# EAGLE library part 620104131822 (library 620104131822)
Wurth Elektronik WR-WTB Series, Series Number 6201, 2mm Pitch 4 Way 1 Row Straight PCB Header, Solder Termination, 2A Source: Datasheet <https://katalog.we-online.de/em/datasheet/6201xx131822.pdf>
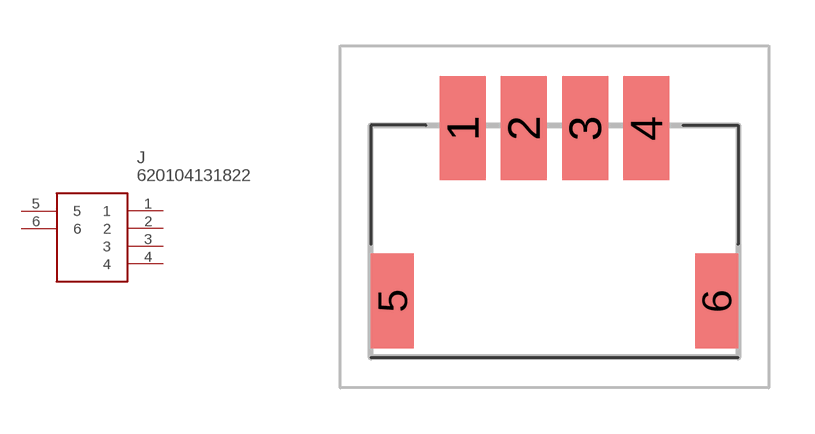
[diagram p0: symbol with the pads of 620104131822; footprint 620104131822]

Designator prefix J

## 620104131822 (Description: Wurth Elektronik WR-WTB Series, Series Number 6201, 2mm Pitch 4 Way 1 Row Straight PCB Header, Solder Termination, 2A; Height: 5.6mm; Manufacturer_Name: Wurth Elektronik; Manufacturer_Part_Number: 620104131822)  [620104131822]
1  1
2  2
3  3
4  4
5  5
6  6

## Footprint 620104131822 (pad centres in mm)
620104131822-2
smd 1.5 x 3.4: 1 -3,3.7; 2 -1,3.7; 3 1,3.7; 4 3,3.7
smd 1.4 x 3.1: 5 -5.3,-1.95; 6 5.3,-1.95